# Altium schematic symbol library AnalogDevicesSW.SchLib: 93 symbols (part 3 of 3)
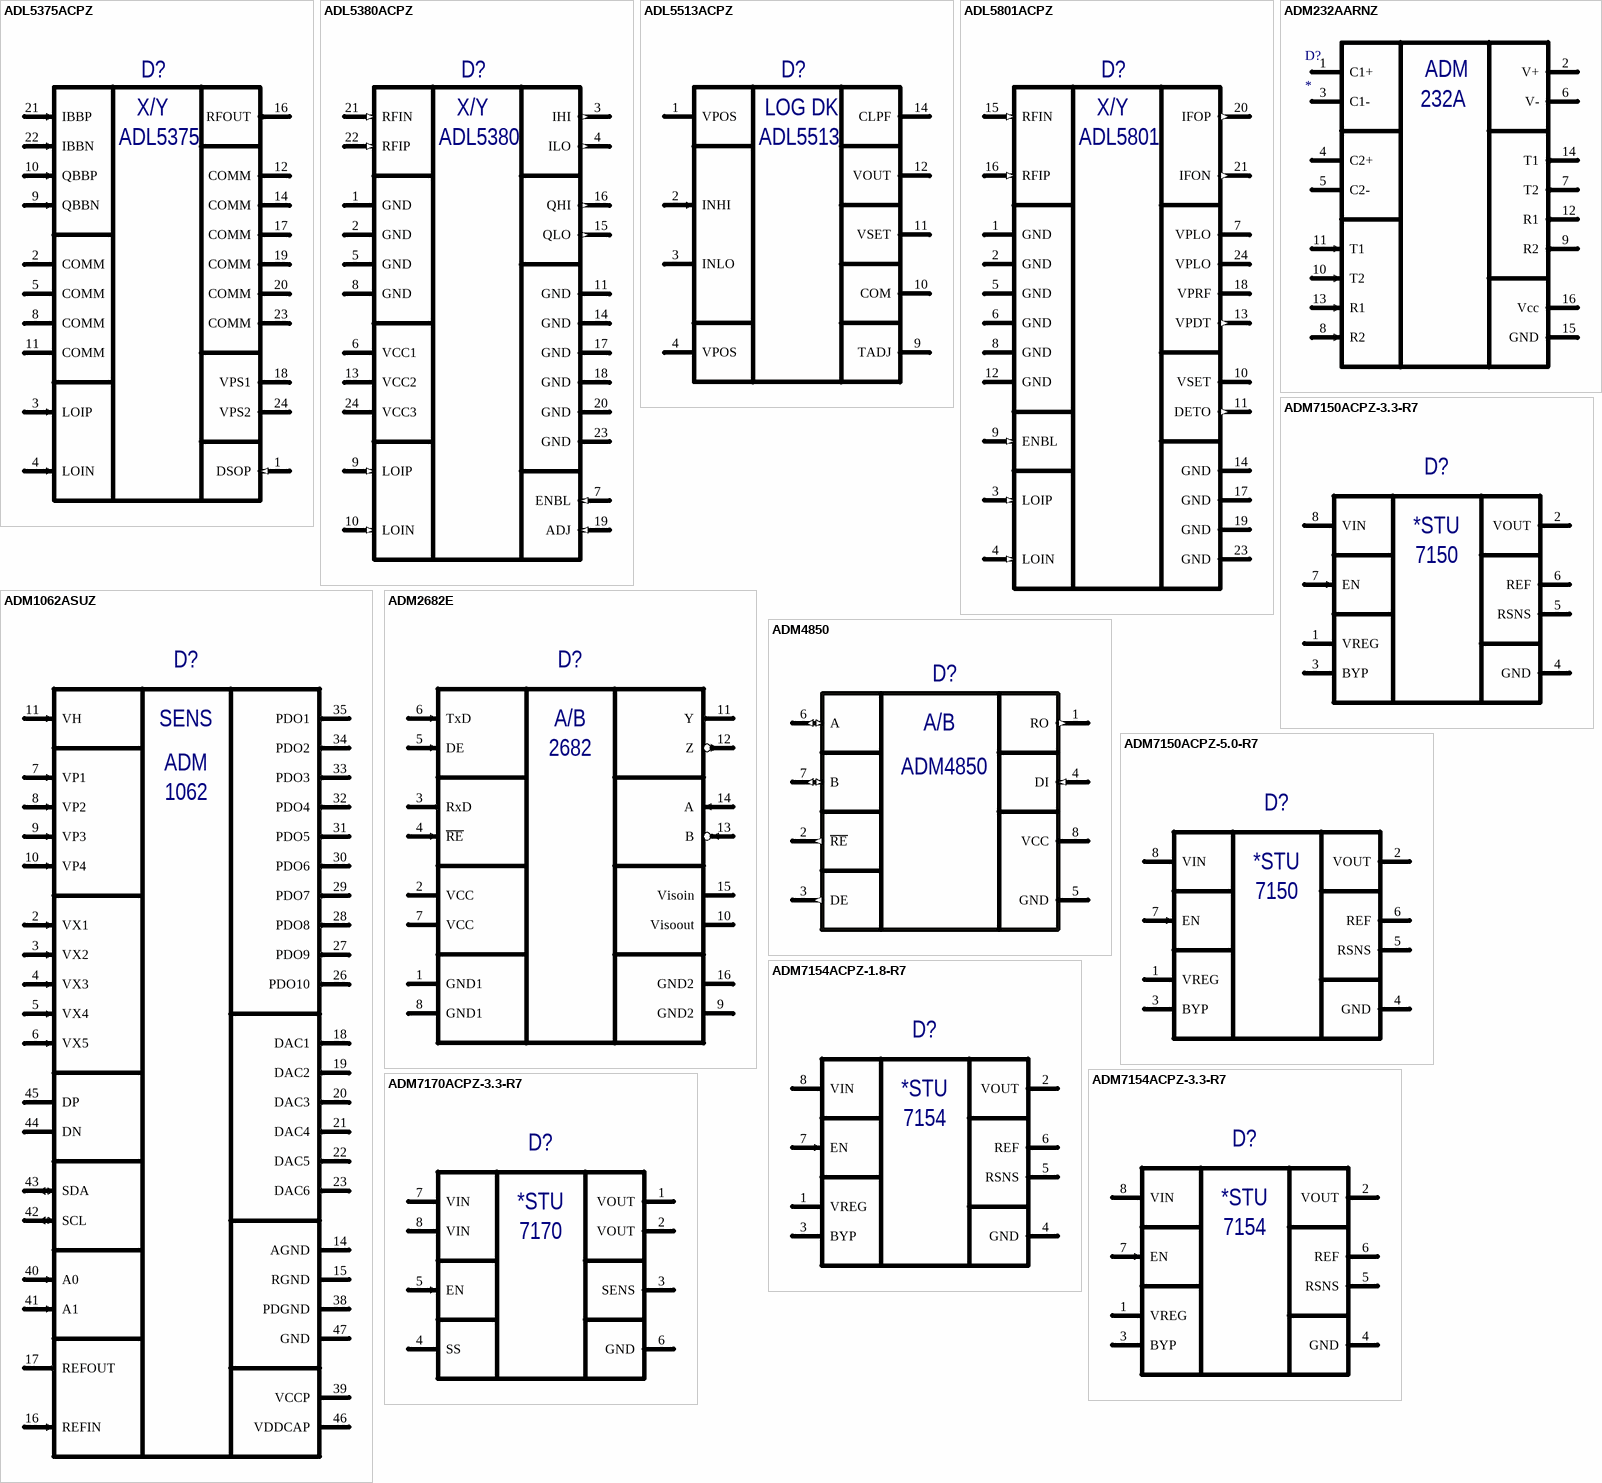
[diagram p12: symbols ADL5375ACPZ to ADM7170ACPZ-3.3-R7]

## ADM7150ACPZ-3.3-R7
designator D?  (value not drawn)
800 mA, High PSRR, RF Linear Regulator 4.5 V to 16 V input voltage; Manufacturer: Analog Devices; Type: Микросхема; SymAuthor: Ерешко П.А.; Package: CP-8-11; ManufacturerPartNumber: ADM7150ACPZ-3.3-R7
footprint CP-8-11 (8-Lead Lead Frame Chip Scale Package [LFCSP_WD]   3 mmx3 mm Body, Very Very Thin, Dual Lead)
pins: 1 VREG "Regulated Input Supply Voltage to LDO Amplifier", 2 VOUT (power) "Regulated Output Voltage", 3 BYP "Low Noise Bypass Capacitor", 4 GND (power) "Ground", 5 RSNS "Reference Sense", 6 REF "Low Noise Reference Voltage Output", 7 EN (in) "Enable", 8 VIN (power) "Regulator Input Supply Voltage", EPAD EP (power) hidden to GND "Ground"
text: *STU; 7150

## ADM7150ACPZ-5.0-R7
designator D?  (value not drawn)
800 mA, High PSRR, RF Linear Regulator 4.5 V to 16 V input voltage; Manufacturer: Analog Devices; Type: Микросхема; SymAuthor: Ерешко П.А.; Package: CP-8-11; ManufacturerPartNumber: ADM7150ACPZ-5.0-R7
footprint CP-8-11 (8-Lead Lead Frame Chip Scale Package [LFCSP_WD]   3 mmx3 mm Body, Very Very Thin, Dual Lead)
pins: 1 VREG "Regulated Input Supply Voltage to LDO Amplifier", 2 VOUT (power) "Regulated Output Voltage", 3 BYP "Low Noise Bypass Capacitor", 4 GND (power) "Ground", 5 RSNS "Reference Sense", 6 REF "Low Noise Reference Voltage Output", 7 EN (in) "Enable", 8 VIN (power) "Regulator Input Supply Voltage", EPAD EP (power) hidden to GND "Ground"
text: *STU; 7150

## ADM7154ACPZ-1.8-R7
designator D?  (value not drawn)
600 mA, High PSRR, RF Linear Regulator; Manufacturer: Analog Devices; Type: Микросхема; SymAuthor: Ерешко П.А.; Package: CP-8-21; ManufacturerPartNumber: ADM7154ACPZ-1.8-R7
footprint QFN50P300X300X80_HS-9N (QFN, 8-Leads, Body 3,00x3,00mm, Pitch 0,50mm, Thermal Pad 2,54x1,70mm, IPC Medium Density)
pins: 1 VREG "Regulated Input Supply Voltage to LDO Amplifier", 2 VOUT (power) "Regulated Output Voltage", 3 BYP "Low Noise Bypass Capacitor", 4 GND (power) "Ground", 5 RSNS "Reference Sense", 6 REF "Low Noise Reference Voltage Output", 7 EN (in) "Enable", 8 VIN (power) "Regulator Input Supply Voltage", EPAD EP (power) hidden to GND "Ground"
text: *STU; 7154

## ADM7154ACPZ-3.3-R7
designator D?  (value not drawn)
600 mA, High PSRR, RF Linear Regulator; Manufacturer: Analog Devices; Type: Микросхема; SymAuthor: Ерешко П.А.; Package: CP-8-21; ManufacturerPartNumber: ADM7154ACPZ-3.3-R7
footprint QFN50P300X300X80_HS-9N (QFN, 8-Leads, Body 3,00x3,00mm, Pitch 0,50mm, Thermal Pad 2,54x1,70mm, IPC Medium Density)
pins: 1 VREG "Regulated Input Supply Voltage to LDO Amplifier", 2 VOUT (power) "Regulated Output Voltage", 3 BYP "Low Noise Bypass Capacitor", 4 GND (power) "Ground", 5 RSNS "Reference Sense", 6 REF "Low Noise Reference Voltage Output", 7 EN (in) "Enable", 8 VIN (power) "Regulator Input Supply Voltage", EPAD EP (power) hidden to GND "Ground"
text: *STU; 7154

## ADM7170ACPZ-3.3-R7
designator D?  (value not drawn)
6.5 V, 500 mA, Ultralow Noise, High PSRR, Fast Transient Response CMOS LDO; Manufacturer: Analog Devices; Type: Микросхема; Package: CP-8-21; ManufacturerPartNumber: ADM7170ACPZ-3.3-R7
footprint QFN50P300X300X80_HS-9N (QFN, 8-Leads, Body 3,00x3,00mm, Pitch 0,50mm, Thermal Pad 2,54x1,70mm, IPC Medium Density)
pins: 1 VOUT (power) "Regulated Output Voltage", 2 VOUT (power) "Regulated Output Voltage", 3 SENS "Sense Input. Connect this pin as close as possible to the load for best load regulation.", 4 SS "Soft Start", 5 EN (in) "Regulator Enable. Drive EN high to turn on the regulator", 6 GND (power) "Ground", 7 VIN (power) "Ground", 8 VIN (power) "Ground", EPAD EP (power) hidden to GND "Ground"
text: *STU; 7170

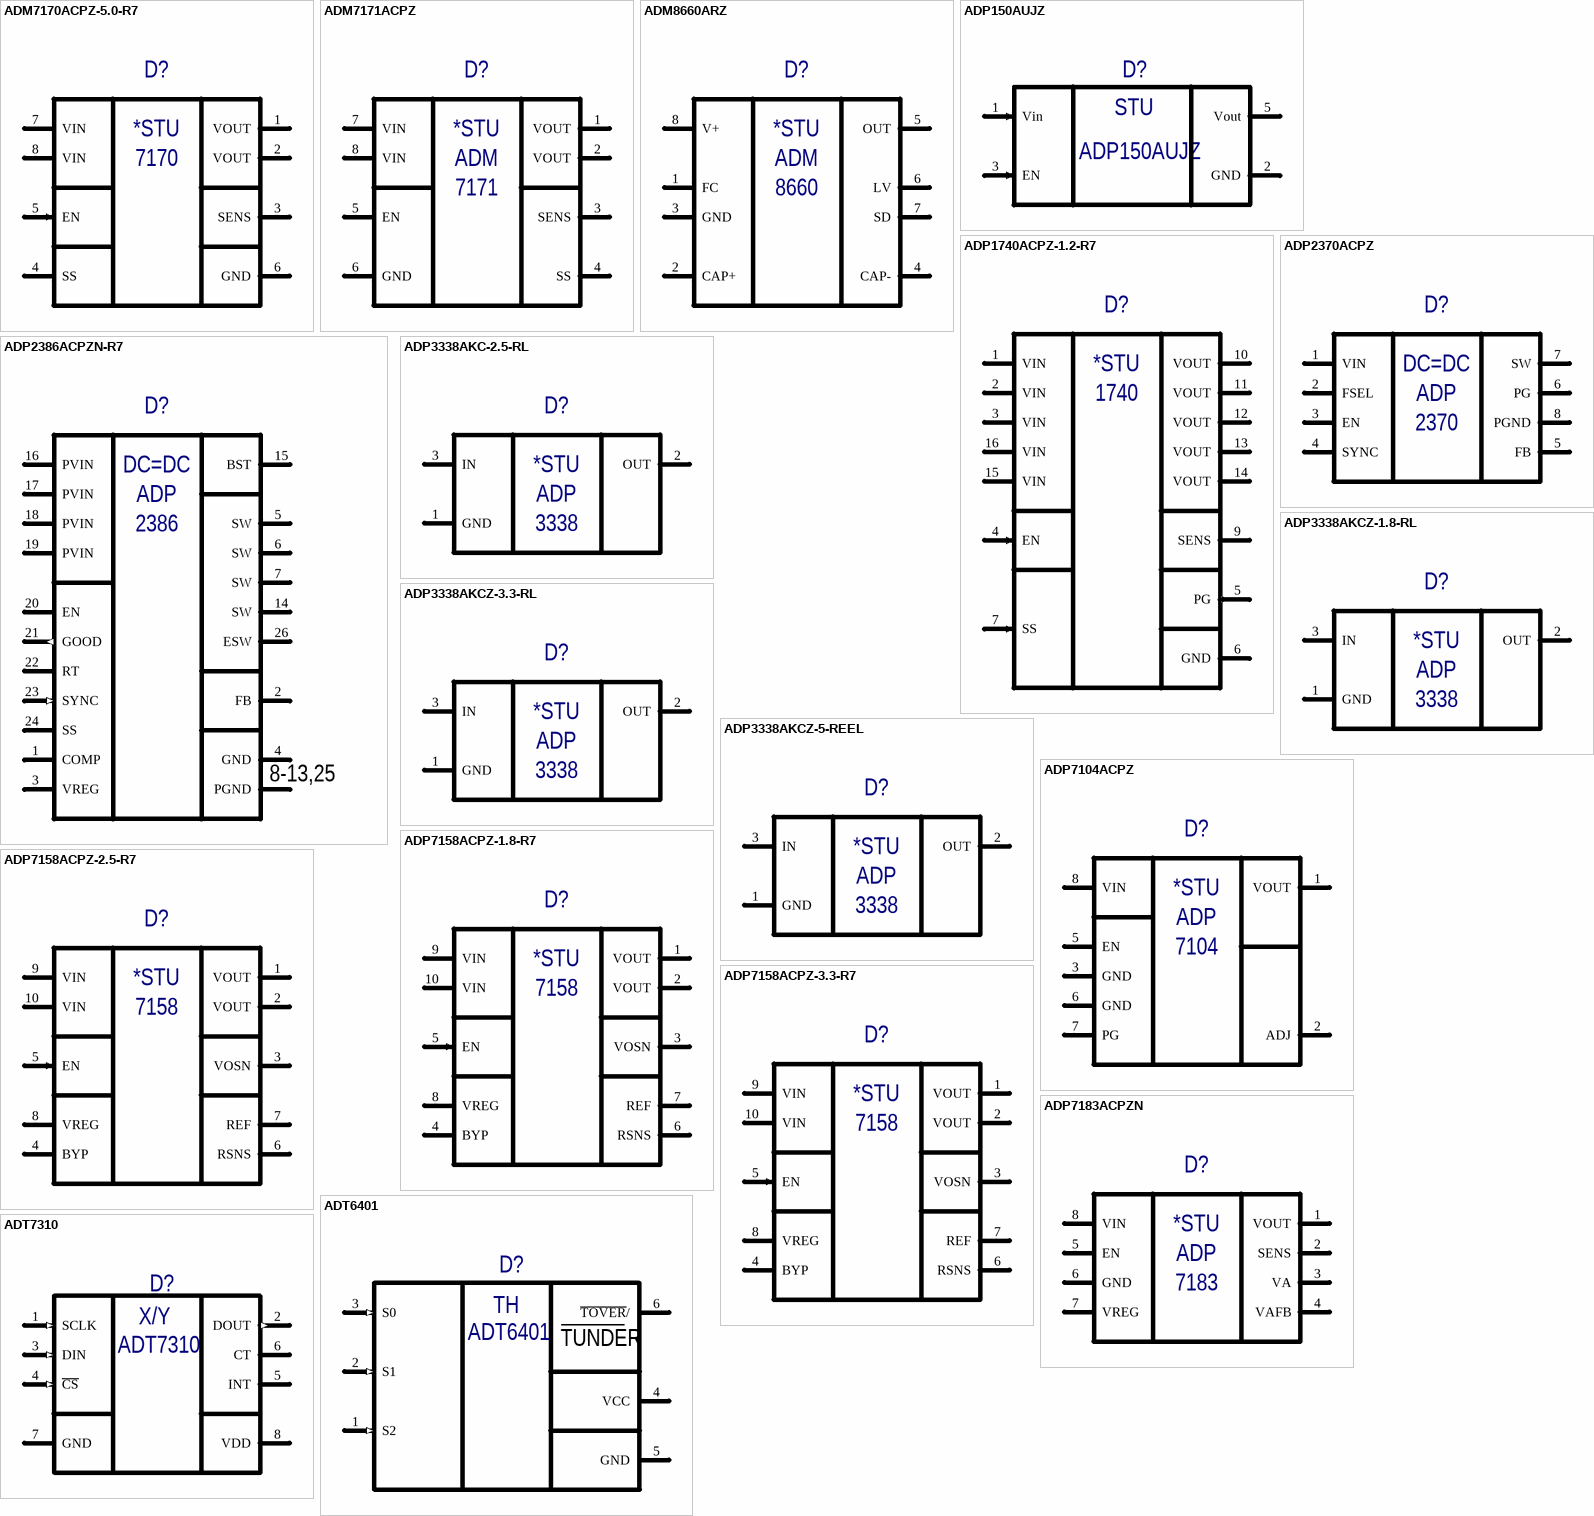
[diagram p9: symbols ADM7170ACPZ-5.0-R7 to ADT7310]

## ADM7170ACPZ-5.0-R7
designator D?  (value not drawn)
6.5 V, 500 mA, Ultralow Noise, High PSRR, Fast Transient Response CMOS LDO; Manufacturer: Analog Devices; Type: Микросхема; Package: CP-8-21; ManufacturerPartNumber: ADM7170ACPZ-5.0-R7
footprint QFN50P300X300X80_HS-9N (QFN, 8-Leads, Body 3,00x3,00mm, Pitch 0,50mm, Thermal Pad 2,54x1,70mm, IPC Medium Density)
pins: 1 VOUT (power) "Regulated Output Voltage", 2 VOUT (power) "Regulated Output Voltage", 3 SENS "Sense Input. Connect this pin as close as possible to the load for best load regulation.", 4 SS "Soft Start", 5 EN (in) "Regulator Enable. Drive EN high to turn on the regulator", 6 GND (power) "Ground", 7 VIN (power) "Ground", 8 VIN (power) "Ground", EPAD EP (power) hidden to GND "Ground"
text: *STU; 7170

## ADM7171ACPZ
designator D?, comment ADM7171ACPZ-X.X.-R7  (value not drawn)
6.5 V, 1 A, Ultralow Noise, High PSRR,  Fast Transient Response CMOS LDO; Manufacturer: Analog Devices; Type: Микросхема; BCPId: *; Name: *; Package: CP-8-21; ManufacturerPartNumber: ADM7171ACPZ-X.X.-R7
footprint QFN50P300X300X80_HS-9N (QFN, 8-Leads, Body 3,00x3,00mm, Pitch 0,50mm, Thermal Pad 2,54x1,70mm, IPC Medium Density)
pins: 1 VOUT (power) "Regulated Output Voltage", 2 VOUT (power) "Regulated Output Voltage", 3 SENS (power) "Sense Input", 4 SS "Soft Start", 5 EN (power) "Enable Input", 6 GND (power), 7 VIN (power) "Regulator Input Supply", 8 VIN (power) "Regulator Input Supply", EPAD (power) hidden to GND "The exposed GND pad"
text: *STU; ADM; 7171

## ADM8660ARZ
designator D?  (value not drawn)
CMOS Switched-Capacitor  Voltage Converters; Manufacturer: Analog Devices; Type: Микросхема; SymAuthor: Блохин В.А.; BCPId: *; Name: *; Package: R-8; ManufacturerPartNumber: ADM8660ARZ
footprint SOIC127P600-8M (SOIC, 8-Leads, Body 4.9x3.9mm, Pitch 1.27mm, IPC Low Density)
pins: 1 FC (power) "Frequency Control Input", 2 CAP+ (power) "Positive Charge-Pump Capacitor Termina", 3 GND (power), 4 CAP- (power) "Negative Charge-Pump Capacitor Terminal", 5 OUT (power) "Output, Negative Voltage", 6 LV (power) "Low Voltage Operation Input", 7 SD (power) "Shutdown", 8 V+ (power) "Positive Power Supply Input"
text: *STU; ADM; 8660

## ADP150AUJZ
designator D?  (value not drawn)
150 mA CMOS Linear Regulator; Manufacturer: Analog Devices; Type: Микросхема; SymAuthor: Календарова В.; BCPId: *; Package: UJ-5; Tolerance: *; ManufacturerPartNumber: ADP150AUJZ
footprint SOT95P280X100-5N (SOT23, 5-Leads, Body 2,90x2,80mm, Pitch 0,95mm, IPC Medium Density)
pins: 1 Vin (in), 2 GND (power), 3 EN (in), 4 NC hidden, 5 Vout (power)
text: STU

## ADP1740ACPZ-1.2-R7
designator D?  (value not drawn)
6.5 V, 500 mA, Ultralow Noise, High PSRR, RF Linear Regulator; Manufacturer: Analog Devices; Type: Микросхема; Package: CP-16-23; ManufacturerPartNumber: ADP1740ACPZ-1.2-R7
footprint QFN65P400X400X80_HS-17N (QFN, 16-Leads, Body 4,00x4,00mm, Pitch 0,65mm, Thermal Pad 2,10x2,10mm, IPC Medium Density)
pins: 1 VIN (power) "Regulator Input Supply Voltage", 2 VIN (power) "Regulator Input Supply Voltage", 3 VIN (power) "Regulator Input Supply Voltage", 4 EN (in) "Enable", 5 PG (out) "Power-Good", 6 GND (power) "Ground", 7 SS (in) "Soft Start", 8 NC hidden "Not Connected.", 9 SENS "Sense Input", 10 VOUT (power) "Regulated Output Voltage", 11 VOUT (power) "Regulated Output Voltage", 12 VOUT (power) "Regulated Output Voltage", 13 VOUT (power) "Regulated Output Voltage", 14 VOUT (power) "Regulated Output Voltage", 15 VIN (power) "Regulator Input Supply Voltage", 16 VIN (power) "Regulator Input Supply Voltage", EPAD EP (power) hidden to GND "Ground"
text: *STU; 1740

## ADP2370ACPZ
designator D?, comment ADP2370ACPZ-X.X-R7  (value not drawn)
High Voltage, 1.2 MHz/600 kHz, 800 mA, Low Quiescent Current Buck Regulator; Manufacturer: Analog Devices; Type: Микросхема; BCPId: *; Name: *; Package: CP-8-5; ManufacturerPartNumber: ADP2370ACPZ-X.X-R7
footprint QFN50P300X300X80_HS-9N (QFN, 8-Leads, Body 3,00x3,00mm, Pitch 0,50mm, Thermal Pad 2,54x1,70mm, IPC Medium Density)
pins: 1 VIN (power) "Power Input", 2 FSEL (power) "Frequency Select", 3 EN (power) "Enable", 4 SYNC (power) "Synchronize", 5 FB (power) "Feedback", 6 PG (power) "Power Good", 7 SW (power) "Switch Node Output", 8 PGND (power) "Power Ground", EPAD (power) hidden to GND "Exposed Pad"
text: DC=DC; ADP; 2370

## ADP2386ACPZN-R7
designator D?  (value not drawn)
20 V, 6 A, Synchronous Step-Down   DC-to-DC Regulator; Manufacturer: Analog Devices; Type: Микросхема; SymAuthor: Блохин В.А.; BCPId: *; Name: *; Package: CP-24-12; ManufacturerPartNumber: ADP2386ACPZN-R7
footprint QFN50P400X400X80_HS-26N (QFN, 24-Leads, Body 4,00x4,00mm, Pitch 0,50mm, Thermal Pad 2,8x1,5mm, Thermal Pad 2,8x1,05mm, IPC Medium Density)
pins: 1 COMP (power) "Error Amplifier Output", 2 FB (power) "Feedback Voltage Sense Input", 3 VREG (power) "Output of the Internal 8 V Regulator", 4 GND (power) "Analog Ground", 5 SW (power) "Switch Node Output", 6 SW (power) "Switch Node Output", 7 SW (power) "Switch Node Output", 8 PGND (power) "Power Ground", 9 PGND (power) hidden to GND "Power Ground", 10 PGND (power) hidden to GND "Power Ground", 11 PGND (power) hidden to GND "Power Ground", 12 PGND (power) hidden to GND "Power Ground", 13 PGND (power) hidden to GND "Power Ground", 14 SW (power) "Switch Node Output", 15 BST (power) "Supply Rail for the High-Side Gate Drive", 16 PVIN (power) "Power Input", 17 PVIN (power) "Power Input", 18 PVIN (power) "Power Input", 19 PVIN (power) "Power Input", 20 EN (power) "Precision Enable Pin", 21 GOOD (out) "Power-Good Output", 22 RT (power) "Frequency Setting", 23 SYNC (in) "Synchronization Input", 24 SS "Soft Start Control", 25 EGND (power) hidden to GND "The exposed GND pad", 26 ESW (power) "The exposed SW pad"
text: DC=DC; ADP; 2386; 8-13,25

## ADP3338AKC-2.5-RL
designator D?  (value not drawn)
High Accuracy, Ultralow IQ, 1 A, anyCAP ® Low Dropout Regulator; Manufacturer: Analog Devices; Type: Микросхема; SymAuthor: Семенов В.С.; BCPId: *; Name: *; Package: 3-Lead SOT-223; ManufacturerPartNumber: ADP3338AKC-2.5-RL
footprint SOT230P700X180-4N (SOT223, 4-Leads, Body 6,7x7,3mm (max), Pitch 2,30mm, IPC Medium Density)
pins: 1 GND (power) "Ground", 2 OUT (power) "Output", 3 IN (power) "Input"
text: *STU; ADP; 3338

## ADP3338AKCZ-1.8-RL
designator D?  (value not drawn)
High Accuracy, Ultralow IQ, 1 A, anyCAP ® Low Dropout Regulator; Manufacturer: Analog Devices; Type: Микросхема; BCPId: *; Name: *; Package: SOT-223; ManufacturerPartNumber: ADP3338AKCZ-1.8-RL
footprint SOT230P700X180-4N (SOT223, 4-Leads, Body 6,7x7,3mm (max), Pitch 2,30mm, IPC Medium Density)
pins: 1 GND (power) "Ground", 2 OUT (power) "Output", 3 IN (power) "Input"
text: *STU; ADP; 3338

## ADP3338AKCZ-3.3-RL
designator D?  (value not drawn)
High Accuracy, Ultralow IQ, 1 A, anyCAP ® Low Dropout Regulator; Manufacturer: Analog Devices; Type: Микросхема; BCPId: *; Name: *; Package: SOT-223; ManufacturerPartNumber: ADP3338AKCZ-3.3-RL
footprint SOT230P700X180-4N (SOT223, 4-Leads, Body 6,7x7,3mm (max), Pitch 2,30mm, IPC Medium Density)
pins: 1 GND (power) "Ground", 2 OUT (power) "Output", 3 IN (power) "Input"
text: *STU; ADP; 3338

## ADP3338AKCZ-5-REEL
designator D?  (value not drawn)
High Accuracy, Ultralow IQ, 1 A, anyCAP ® Low Dropout Regulator; Manufacturer: Analog Devices; Type: Микросхема; BCPId: *; Name: *; Package: SOT-223; ManufacturerPartNumber: ADP3338AKCZ-5-REEL
footprint SOT230P700X180-4N (SOT223, 4-Leads, Body 6,7x7,3mm (max), Pitch 2,30mm, IPC Medium Density)
pins: 1 GND (power) "Ground", 2 OUT (power) "Output", 3 IN (power) "Input"
text: *STU; ADP; 3338

## ADP7104ACPZ
designator D?, comment ADP7104ACPZ-X.X-R7  (value not drawn)
20 V, 500 mA, Low Noise, CMOS LDO; Manufacturer: Analog Devices; Type: Микросхема; SymAuthor: Блохин В.А.; BCPId: *; Name: *; Package: CP-8-5; ManufacturerPartNumber: ADP7104ACPZ-X.X-R7
footprint QFN50P300X300X80_HS-9N (QFN, 8-Leads, Body 3,00x3,00mm, Pitch 0,50mm, Thermal Pad 2,54x1,70mm, IPC Medium Density)
pins: 1 VOUT (power) "Regulated Output Voltage", 2 ADJ (power) "Adjust Input", 3 GND (power), 4 NC hidden "Do Not Connect to this Pin", 5 EN (power) "Enable Input", 6 GND (power), 7 PG  (power) "Power Good", 8 VIN (power) "Regulator Input Supply", EPAD (power) hidden to GND "The exposed GND pad"
text: *STU; ADP; 7104

## ADP7158ACPZ-1.8-R7
designator D?  (value not drawn)
2 A, Ultralow Noise, High PSRR, RF Linear Regulator; Manufacturer: Analog Devices; Type: Микросхема; SymAuthor: Иванова И.С.; Package: CP-10-9; ManufacturerPartNumber: ADP7158ACPZ-1.8-R7
footprint CP-10-9 (8-10-Lead Lead Frame Chip Scale Package [LFCSP]   3 mmx3 mm Body and 0.75 mm Package Height)
pins: 1 VOUT (power) "Regulated Output Voltage", 2 VOUT (power) "Regulated Output Voltage", 3 VOSN "Output Sense", 4 BYP "Low Noise Bypass Capacitor", 5 EN (in) "Enable", 6 RSNS "Reference Sense", 7 REF "Low Noise Reference Voltage Output", 8 VREG "Regulated Input Supply Voltage to LDO Amplifier", 9 VIN (power) "Regulator Input Supply Voltage", 10 VIN (power) "Regulator Input Supply Voltage", EPAD EP (power) hidden to GND "Ground"
text: *STU; 7158

## ADP7158ACPZ-2.5-R7
designator D?  (value not drawn)
2 A, Ultralow Noise, High PSRR, RF Linear Regulator; Manufacturer: Analog Devices; Type: Микросхема; SymAuthor: Ерешко П.А.; Package: CP-10-9; ManufacturerPartNumber: ADP7158ACPZ-2.5-R7
footprint CP-10-9 (8-10-Lead Lead Frame Chip Scale Package [LFCSP]   3 mmx3 mm Body and 0.75 mm Package Height)
pins: 1 VOUT (power) "Regulated Output Voltage", 2 VOUT (power) "Regulated Output Voltage", 3 VOSN "Output Sense", 4 BYP "Low Noise Bypass Capacitor", 5 EN (in) "Enable", 6 RSNS "Reference Sense", 7 REF "Low Noise Reference Voltage Output", 8 VREG "Regulated Input Supply Voltage to LDO Amplifier", 9 VIN (power) "Regulator Input Supply Voltage", 10 VIN (power) "Regulator Input Supply Voltage", EPAD EP (power) hidden to GND "Ground"
text: *STU; 7158

## ADP7158ACPZ-3.3-R7
designator D?  (value not drawn)
2 A, Ultralow Noise, High PSRR, RF Linear Regulator; Manufacturer: Analog Devices; Type: Микросхема; SymAuthor: Иванова И.С.; Package: CP-10-9; ManufacturerPartNumber: ADP7158ACPZ-3.3-R7
footprint CP-10-9 (8-10-Lead Lead Frame Chip Scale Package [LFCSP]   3 mmx3 mm Body and 0.75 mm Package Height)
pins: 1 VOUT (power) "Regulated Output Voltage", 2 VOUT (power) "Regulated Output Voltage", 3 VOSN "Output Sense", 4 BYP "Low Noise Bypass Capacitor", 5 EN (in) "Enable", 6 RSNS "Reference Sense", 7 REF "Low Noise Reference Voltage Output", 8 VREG "Regulated Input Supply Voltage to LDO Amplifier", 9 VIN (power) "Regulator Input Supply Voltage", 10 VIN (power) "Regulator Input Supply Voltage", EPAD EP (power) hidden to GND "Ground"
text: *STU; 7158

## ADP7183ACPZN
designator D?, comment ADP7183ACPZN*.*-R7  (value not drawn)
−300 mA, Ultralow Noise, High PSRR,  Low Dropout Linear Regulator; Manufacturer: Analog Devices; Type: Микросхема; SymAuthor: Блохин В.А.; BCPId: *; Name: *; Package: CP-8-27; ManufacturerPartNumber: ADP7183ACPZN*.*-R7
footprint QFN50P200X200X60_HS-9N (Footprint not found)
pins: 1 VOUT (power) "Regulated Output Voltage", 2 SENS (power) "Sense Input", 3 VA (power) "Low Noise Reference Voltage", 4 VAFB (power) "Output Voltage Reference Feedback", 5 EN (power) "Enable", 6 GND (power), 7 VREG (power) "Regulated Input Supply", 8 VIN (power) "Regulator Input Supply", EPAD (power) hidden to GND "The exposed GND pad"
text: *STU; ADP; 7183

## ADT6401
designator D?, comment ADT6401SRJZ-RL7  (value not drawn)
2.7 V to 5.5 V, Pin-Selectable  Temperature Switches in SOT-23; Manufacturer: Analog Devices, Inc.; Type: Микросхема; BCPId: *; Name: *; Package: 6-Lead SOT-23 ( RJ-6); ManufacturerPartNumber: ADT6401SRJZ-RL7
footprint SOT95P280X145-6N (SOT23, 6-Leads, Body 1,6x2,9mm, Pitch 0,95mm)
pins: 1 S2 (in) "Select Pin for Trip Point and Hysteresis Values", 2 S1 (in) "Select Pin for Trip Point and Hysteresis Values", 3 S0 (in) "Select Pin for Trip Point and Hysteresis Values", 4 VCC (power) "Supply Input", 5 GND (power), 6 ~{TOVER}/ (oc) "Open-Drain, Active Low Output"
text: TH; TUNDER

## ADT7310
designator D?, comment ADT7310TRZ  (value not drawn)
±0.5°C Accurate, 16-Bit  Digital SPI Temperature Sensor; Manufacturer: Analog Devices, Inc.; Type: Микросхема; BCPId: *; Name: *; Package: SOIC-8 (R-8); ManufacturerPartNumber: ADT7310TRZ
footprint SOIC127P600-8M (SOIC, 8-Leads, Body 4.9x3.9mm, Pitch 1.27mm, IPC Low Density)
pins: 1 SCLK (in) "Serial Clock Input", 2 DOUT (out) "Serial Data Output", 3 DIN (in) "Serial Data Input", 4 ~{CS} (in) "Chip Select Input", 5 INT (oc) "Overtemperature and Undertemperature Indicator. Logic output", 6 CT (oc) "Critical Overtemperature Indicator. Logic output", 7 GND (power), 8 VDD (power) "Positive Supply Voltage"
text: X/Y

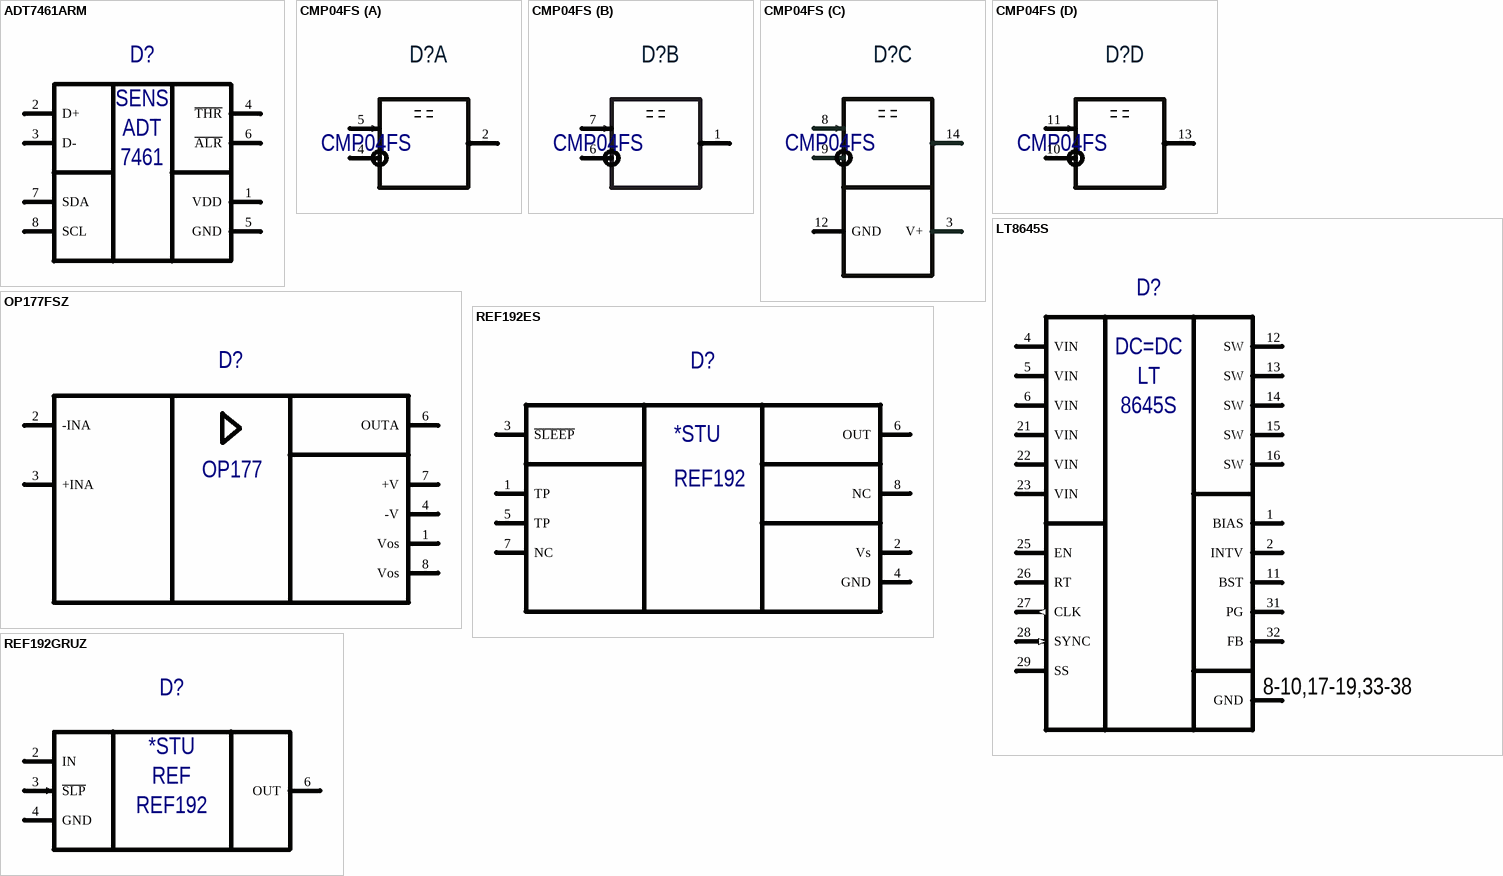
[diagram p10: symbols ADT7461ARM to REF192GRUZ]

## ADT7461ARM
designator D?  (value not drawn)
Устройство контроля температуры; Manufacturer: Analog Devices; Type: Микросхема; SymAuthor: Семенов В.С.; BCPId: *; ManufacturerPartNumber: ADT7461ARM; Package: RM-8
footprint TSOP65P490X110-8N (Shrink Small Outline; 8 Leads; Body Width 3 mm; Pitch 0.65 mm)
pins: 1 VDD "Питание", 2 D+ "Контакт положительной цепи датчика температуры", 3 D- "Контакт отрицательной цепи датчика температуры", 4 ~{THR} "Сигнал превышения уровня температуры", 5 GND "Земля", 6 ~{ALR}, 7 SDA "Шина данных последовательного интерфейса SMBus", 8 SCL "Шина тактирования последовательного интерфейса SMBus"
text: SENS; ADT; 7461

## CMP04FS
designator D?
CMP04FS Quad Low Power Precision Comparator; Manufacturer: Analog Devices; Type: Микросхема; SymAuthor: Москалец (Юрганов); Name: *; TU/GOST: *; BCPId: *; Package: 14-Lead SOIC, R14/SO-14; Rem: *; ManufacturerPartNumber: CMP04FS
footprint SOIC127P600X175-14N (SOIC, 14-Leads, Body 8.7x3.9mm, Pitch 1.27mm, IPC Medium Density)
part A pins: 2 OUT1 (out) "OUTPUT1", 4 IN1- (in) "INVERTING INPUT1", 5 IN1+ (in) "NONINVERTING INPUT1"
part B pins: 1 OUT2 (out) "OUTPUT2", 6 IN2- (in) "INVERTING INPUT2", 7 IN2+ (in) "NONINVTRTING INPUT2"
part C pins: 3 V+ (power) "POSITIVE SUPPLY", 8 IN3- (in) "INVERTING INPUT3", 9 IN3+ (in) "NONINVERTING INPUT3", 12 GND (power) "GROUND SUBSTRATE", 14 OUT3 (out) "OUTPUT3"
part D pins: 10 IN4- (in) "INVERTING INPUT4", 11 IN4+ (in) "NONINVERTING INPUT4", 13 OUT4 (out) "OUTPUT4"

## LT8645S
designator D?, comment LT8645SEV#PBF  (value not drawn)
65V, 8A Synchronous  Step-Down Silent Switcher 2; Manufacturer: Analog Devices; Type: Микросхема; SymAuthor: Блохин В.А,; BCPId: *; Name: *; Package: LQFN 6x4; ManufacturerPartNumber: LT8645SEV#PBF
footprint LQFN50P600X400X94-32N (32-Lead SMD; Body: L=6mm, W=4mm, H=0.94mm; Weight: ~2g)
pins: 1 BIAS (power) "The internal regulator", 2 INTV (power) "Internal 3.4V Regulator Bypass Pin", 3 NC hidden to GND, 4 VIN (power) "V IN pin", 5 VIN (power) "V IN pin", 6 VIN (power) "V IN pin", 7 NC hidden to GND, 8 GND (power) "Ground", 9 GND (power) hidden to GND "Ground", 10 GND (power) hidden to GND "Ground", 11 BST (power) "drive voltage", 12 SW (power) "Power Output", 13 SW (power) "Power Output", 14 SW (power) "Power Output", 15 SW (power) "Power Output", 16 SW (power) "Power Output", 17 GND (power) hidden to GND "Ground", 18 GND (power) hidden to GND "Ground", 19 GND (power) hidden to GND "Ground", 20 NC hidden to GND, 21 VIN (power) "V IN pin", 22 VIN (power) "V IN pin", 23 VIN (power) "V IN pin", 24 NC hidden to GND, 25 EN (power) "shut down", 26 RT (power) "switching frequency", 27 CLK (out) "In pulse-skipping mode", 28 SYNC (in) "operating modes", 29 SS (power) "Soft-Start", 30 GND (power) hidden to GND, 31 PG (power) "power good", 32 FB (power) "feedback", 33 EPAD (power) hidden to GND "Exposed Pad Ground", 34 EPAD (power) hidden to GND "Exposed Pad Ground", 35 EPAD (power) hidden to GND "Exposed Pad Ground", 36 EPAD (power) hidden to GND "Exposed Pad Ground", 37 EPAD (power) hidden to GND "Exposed Pad Ground", 38 EPAD (power) hidden to GND "Exposed Pad Ground", 39 GND (power) hidden to GND, 40 GND (power) hidden to GND, 41 GND (power) hidden to GND, 42 GND (power) hidden to GND
text: DC=DC; LT; 8645S; 8-10,17-19,33-38

## OP177FSZ
designator D?  (value not drawn)
Ultraprecision Operational Amplifier; Manufacturer: Analog Devices; Type: Микросхема; BCPId: *; Name: *; Package: R-8; ManufacturerPartNumber: OP177FSZ
footprint SOIC127P600-8M (SOIC, 8-Leads, Body 4.9x3.9mm, Pitch 1.27mm, IPC Low Density)
pins: 1 Vos, 2 -INA, 3 +INA, 4 -V, 5 NC hidden, 6 OUTA, 7 +V, 8 Vos
text: OP177

## REF192ES
designator D?  (value not drawn)
Источник опорного напряжения 2,5 В 30 мА; Manufacturer: Analog Devices; Type: Микросхема; BCPId: *; ManufacturerPartNumber: REF192ES; Package: R-8
footprint SOIC127P600-8M (SOIC, 8-Leads, Body 4.9x3.9mm, Pitch 1.27mm, IPC Low Density)
pins: 1 TP, 2 Vs, 3 ~{SLEEP}, 4 GND, 5 TP, 6 OUT, 7 NC, 8 NC
text: *STU; REF192

## REF192GRUZ
designator D?  (value not drawn)
Источник опорного напряжения 2,5 В 30 мА; Manufacturer: Analog Devices; Type: Микросхема; SymAuthor: Семенов В.С,; BCPId: *; ManufacturerPartNumber: REF192GRUZ; Package: RU-8
footprint TSOP65P640X120-8N (TSOP, 8-Leads, Body 6,6x4,5mm (max), Pitch 0,65mm, IPC Medium Density)
pins: 2 IN (power) "Входное питание", 3 ~{SLP} (in) "Инверсный вход установки спящего режима", 4 GND (power) "Земля", 6 OUT (power) "Выходное стабилизированное напряжение 2,5 В"
text: *STU; REF; REF192